# Altium footprint library SOD.PcbLib: 1 footprints
Each footprint in its own frame and in the unit in brackets; x right, y up, seen from the top. Pads: shape width x height; smd on the part's side, far side on the other; paste and mask are expansions set on the pad; w line width, h text height; cw(c..) or ccw(c..) is an arc to the next point about the centre after c.
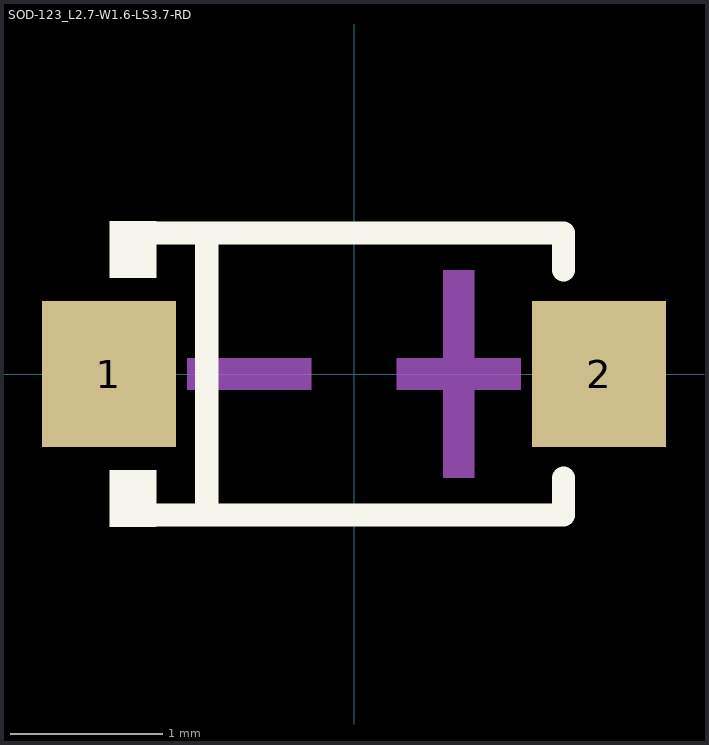
[diagram p0: the footprint, top view; thin cyan lines are the x and y axes]

## SOD-123_L2.7-W1.6-LS3.7-RD [mm]
pads (2):
  rect 0.88x0.96 smd: 1(-1.61,0) 2(1.61,0)
Top Overlay:
  region: -1.3,1.002 -1.3,0.632 -1.605,0.632 -1.605,1.002
  region: -1.3,-1.002 -1.3,-0.632 -1.605,-0.632 -1.605,-1.002
  lines w0.152: -1.376,-0.926 1.376,-0.926 1.376,-0.683 ; -1.376,0.926 1.376,0.926 1.376,0.683 ; -0.967,-0.926 -0.967,0.926
Mechanical 15:
  region: -1.096,0.102 -1.096,-0.102 -0.28,-0.102 -0.28,0.102
  region: 1.096,0.102 1.096,-0.102 0.28,-0.102 0.28,0.102
  region: 0.79,0.68 0.79,-0.68 0.586,-0.68 0.586,0.68